# Altium footprint library INF-PG-TO252-3-11_A_M.PcbLib: 1 footprints
Each footprint in its own frame and in the unit in brackets; x right, y up, seen from the top. Pads: shape width x height; smd on the part's side, far side on the other; paste and mask are expansions set on the pad; w line width, h text height; cw(c..) or ccw(c..) is an arc to the next point about the centre after c.
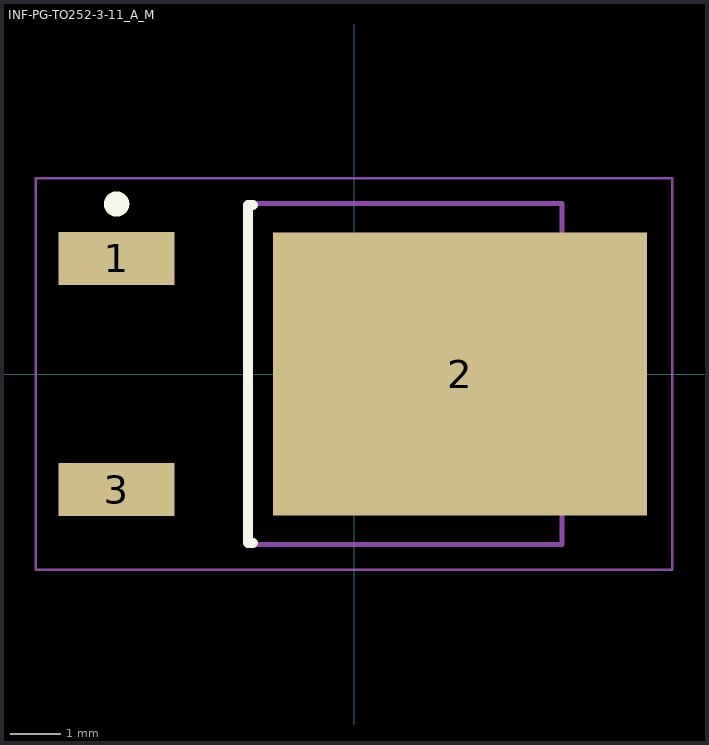
[diagram p0: the footprint, top view; thin cyan lines are the x and y axes]

## INF-PG-TO252-3-11_A_M [mm] "DPAK, 3-Leads, Body 6.57x6.1mm, Pitch 2.29mm, IPC Low Density"
height 2.41
pads (3):
  rect 2.3x1.05 smd: 1(-4.7,2.29) 3(-4.7,-2.29)
  rect 7.4x5.6 smd: 2(2.1,0)
Top Overlay:
  circle w0.25: c-4.7,3.365 r0.125
  lines w0.2: -2,-3.35 -2.1,-3.35 -2.1,3.35 -2,3.35
Mechanical 13:
  lines w0.1: -2.1,-3.375 4.12,-3.375 4.12,3.375 -2.1,3.375 -2.1,-3.375
Mechanical 15:
  lines w0.05: -6.3,-3.875 6.3,-3.875 6.3,3.875 -6.3,3.875 -6.3,-3.875
  lines w0.1: -0.5,0 0.5,0 ; 0,-0.5 0,0.5
3D body: height 2.41, standoff 0, extent -2.1,-3.375 4.12,3.375